# Altium footprint library Parking Sensor in FG Case6.1.PcbLib: 34 footprints (part 1 of 3)
Each footprint in its own frame and in the unit in brackets; x right, y up, seen from the top. Pads: shape width x height; smd on the part's side, far side on the other; paste and mask are expansions set on the pad; w line width, h text height; cw(c..) or ccw(c..) is an arc to the next point about the centre after c.
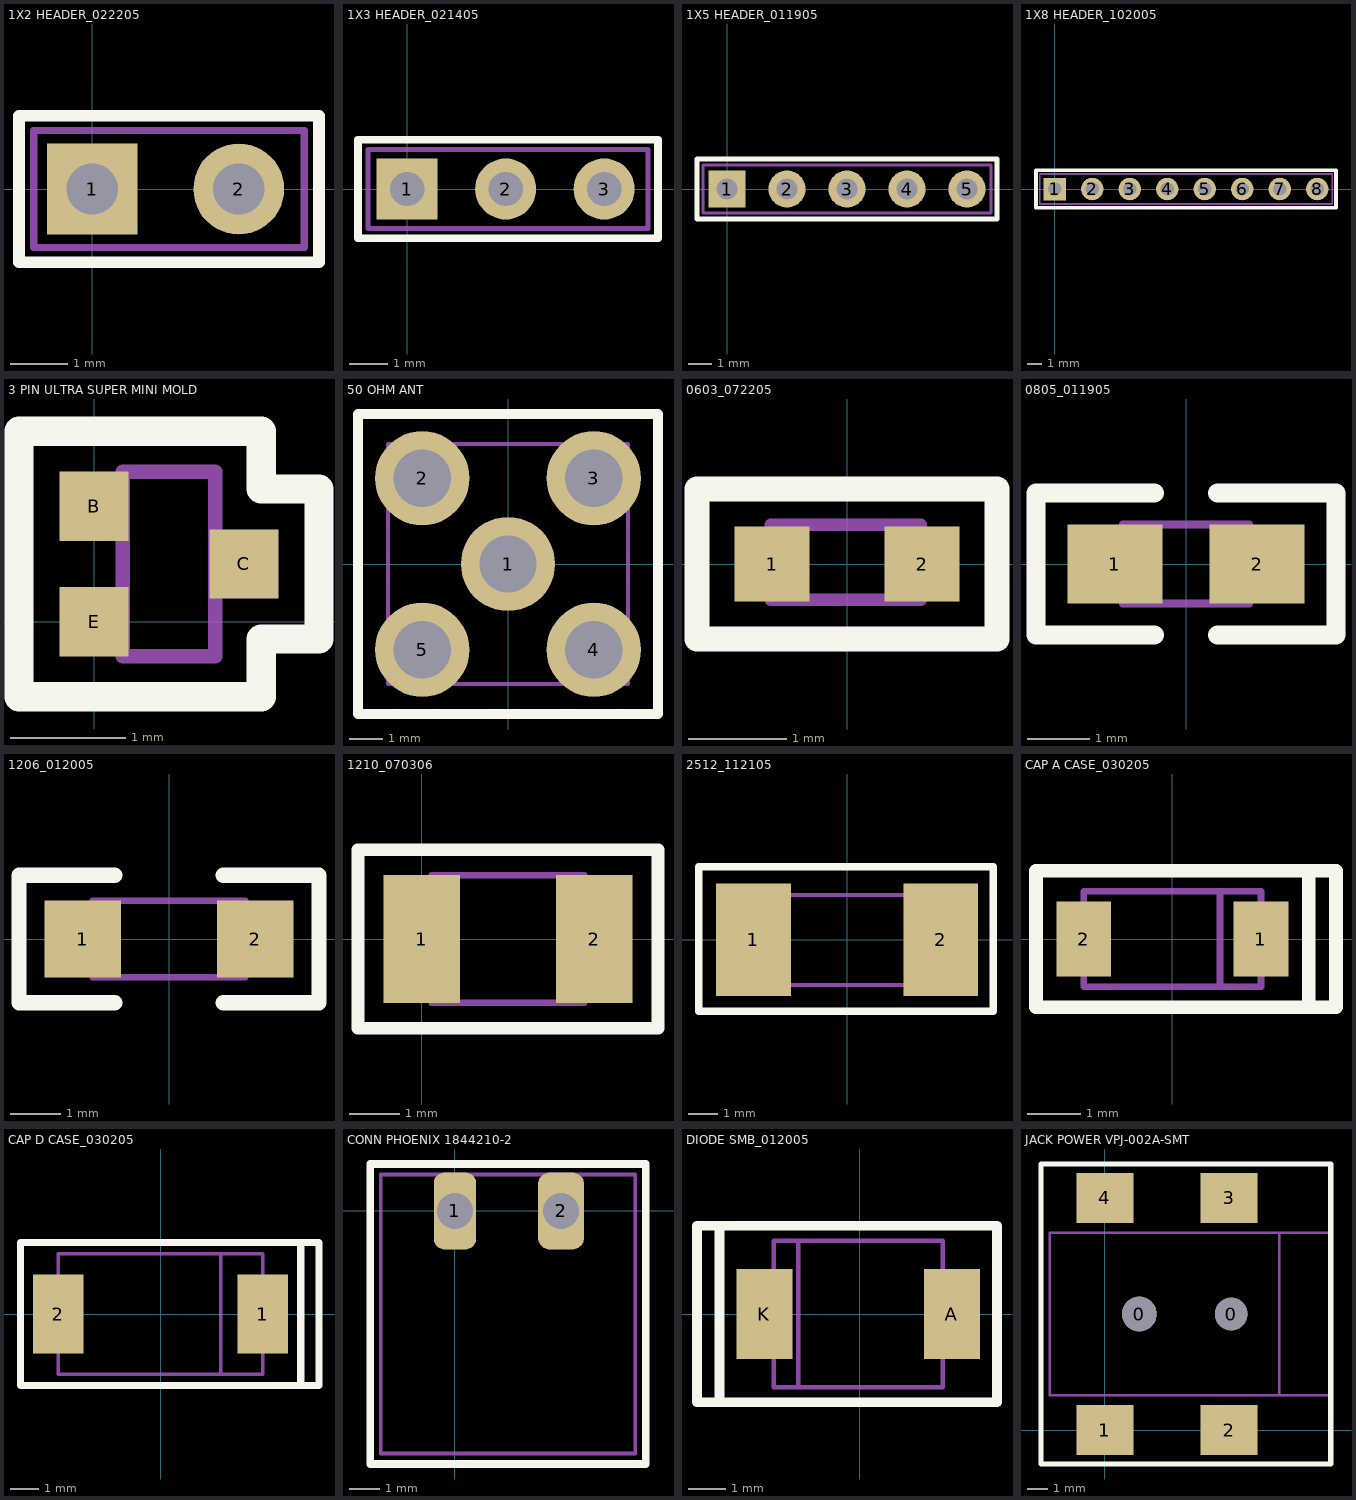
[diagram p0: the footprints below, top view; thin cyan lines are the x and y axes]

## 1X2 HEADER_022205 [mil] "TH"
height 315
pads (2):
  rect 62x62 hole 35: 1(0,0)
  round 62 hole 35: 2(100,0)
Top Overlay:
  lines w8: -50,-50 154.72,-50 154.72,50 -50,50 -50,-50
Mechanical 1:
  lines w4.92: -40,-40 144.72,-40 144.72,40 -40,40 -40,-40 ; -15,-15 -15,15 15,15 15,-15 -15,-15 ; 85,-15 85,15 115,15 115,-15 85,-15
Mechanical 8:
  text ".Designator" at 40,60 h39.37

## 1X3 HEADER_021405 [mil] "TH"
height 375
pads (3):
  rect 62x62 hole 35: 1(0,0)
  round 62 hole 35: 2(100,0) 3(200,0)
Top Overlay:
  lines w8: -50,-50 254.72,-50 254.72,50 -50,50 -50,-50
Mechanical 1:
  lines w4.92: -40,-40 244.72,-40 244.72,40 -40,40 -40,-40 ; -10,-10 10,-10 10,10 -10,10 -10,-10 ; 90,-10 90,10 110,10 110,-10 90,-10 ; 190,-10 190,10 210,10 210,-10 190,-10
Mechanical 8:
  text ".Designator" at 145,-65 h39.37

## 1X5 HEADER_011905 [mil] "TH"
height 315
pads (5):
  rect 62x62 hole 35: 1(0,0)
  round 62 hole 35: 2(100,0) 3(200,0) 4(300,0) 5(400,0)
Top Overlay:
  lines w8: -50,-50 -50,50 450,50 450,-50 -50,-50
Mechanical 1:
  lines w4.92: -40,-40 -40,40 440,40 440,-40 -40,-40 ; -13,-12 -13,13 12,13 12,-12 -13,-12 ; 87,-12 87,13 112,13 112,-12 87,-12 ; 187,-12 187,13 212,13 212,-12 187,-12 ; 287,-12 287,13 312,13 312,-12 287,-12 ; 387,-12 387,13 412,13 412,-12 387,-12
Mechanical 8:
  text ".Designator" at 175,55 h39.37

## 1X8 HEADER_102005 [mil] "TH"
height 350
pads (8):
  rect 60x60 hole 35: 1(0,0)
  round 60 hole 35: 2(100,0) 3(200,0) 4(300,0) 5(400,0) 6(500,0) 7(600,0) 8(700,0)
Top Overlay:
  lines w10: -50,-50 -50,50 750,50 750,-50 -50,-50
Mechanical 1:
  lines w4.92: -40,-40 740,-40 740,40 -40,40 -40,0 -40,-40
Mechanical 8:
  text ".Designator" at 335,-20 h39.37

## 3 PIN ULTRA SUPER MINI MOLD [mm]
pads (3):
  rect 0.6x0.6 smd: B(0,1) C(1.3,0.5) E(0,0)
Top Overlay:
  lines w0.254: -0.65,-0.65 -0.65,1.6 -0.65,1.65 1.45,1.65 1.45,1.15 1.95,1.15 1.95,-0.15 1.45,-0.15 1.45,-0.65 -0.65,-0.65
Mechanical 1:
  lines w0.125: 0.25,-0.15 -0.15,-0.15 -0.15,0.15 0.25,0.15 ; 0.25,0.85 -0.15,0.85 -0.15,1.15 0.25,1.15 ; 1.05,0.35 1.45,0.35 1.45,0.65 1.05,0.65 ; 0.25,-0.3 1.05,-0.3 1.05,1.3 0.25,1.3 0.25,-0.3
Mechanical 8:
  text ".Designator" at 2.914,-0.309 h1

## 50 OHM ANT [mil]
pads (5):
  round 110 hole 67: 1(0,0) 2(-100,100) 3(100,100) 4(100,-100) 5(-100,-100)
Top Overlay:
  lines w12: -175,-175 175,-175 175,0 175,175 -175,175 -175,-175
Mechanical 1:
  lines w4.92: -140,-140 140,-140 140,0 140,140 -140,140 -140,-140
Mechanical 8:
  text ".Designator" at -15,-24.5 h39.37

## 0603_072205 [mil] "SM"
height 20
pads (2):
  rect 30x30 smd: 1(-30,0) 2(30,0)
Top Overlay:
  lines w10: -60,-30 -60,0 -60,30 60,30 60,-30 -60,-30
Mechanical 1:
  lines w4.92: -30.53,-14.25 29.47,-14.25 29.47,15.75 -30.53,15.75 -30.53,-14.25
Mechanical 8:
  text ".Designator" at 145,20 h39.37

## 0805_011905 [mil] "SMT"
height 26
pads (2):
  rect 60x50 smd: 1(-45,0) 2(45,0)
Top Overlay:
  lines w12: -20,-45 -95,-45 -95,45 -20,45 ; 20,-45 95,-45 95,45 20,45
Mechanical 1:
  lines w4.92: -40,-25 40,-25 40,25 -40,25 -40,-25
Mechanical 8:
  text ".Designator" at 25,-35 h39.37

## 1206_012005 [mil] "SMT"
height 25
pads (2):
  rect 60x60 smd: 1(-67.5,0) 2(67.5,0)
Top Overlay:
  lines w12: -42.5,-50 -117.5,-50 -117.5,50 -42.5,50 ; 42.5,-50 117.5,-50 117.5,50 42.5,50
Mechanical 1:
  lines w4.92: -60,-30 60,-30 60,30 -60,30 -60,-30
Mechanical 8:
  text ".Designator" at 80.67,-13.98 h39.37

## 1210_070306 [mil] "SMT"
height 39.37
pads (2):
  rect 60x100 smd: 1(0,0) 2(135,0)
Top Overlay:
  lines w10: -50,-70 -50,70 110,70 185,70 185,-70 110,-70 -50,-70
Mechanical 1:
  lines w4.92: 67.5,50 7.5,50 ; 127.5,0 127.5,-50 ; 7.5,50 127.5,50 127.5,-50 ; 7.5,50 7.5,-50 127.5,-50
Mechanical 8:
  text ".Designator" at 35,-15 h39.37

## 2512_112105 [mil] "SMT"
height 50
pads (2):
  rect 100x150 smd: 1(-125,0) 2(125,0)
Top Overlay:
  lines w10: -197.5,-95 195,-95 195,97.5 -197.5,97.5 -197.5,-95
Mechanical 1:
  lines w4.92: -125,-60 -125,60 125,60 125,-60 -125,-60
Mechanical 8:
  text ".Designator" at -23,-13 h39.37

## CAP A CASE_030205 [mil] "SMT"
height 70
pads (2):
  rect 40x55 smd: 1(65,0) 2(-65,0)
Top Overlay:
  lines w10: 100,-50 120,-50 120,50 100,50 ; 100,-50 -35,-50 -100,-50 -100,50 100,50 ; 100,-50 100,50
Mechanical 1:
  lines w4.92: -65,0 -65,35 ; 0,-35 -65,-35 ; 35,-35 35,35 ; -65,-35 -65,35 ; -65,-35 65,-35 65,35 -65,35
Mechanical 8:
  text ".Designator" at -50,-80 h39.37

## CAP D CASE_030205 [mm] "SMT"
height 3.048
pads (2):
  rect 1.8x2.8 smd: 1(3.65,0) 2(-3.65,0)
Top Overlay:
  lines w0.254: 5,-2.55 5.65,-2.55 5.65,2.55 5,2.55 ; 5,-2.55 -5,-2.55 -5,0 -5,2.55 5,2.55 ; 5,-2.55 5,2.55
Mechanical 1:
  lines w0.125: 0,-2.15 -3.65,-2.15 ; 2.15,2.15 2.15,-2.15 3.65,-2.15 ; 3.65,0 3.65,2.15 ; -3.65,-2.15 -3.65,2.15 3.65,2.15 ; -3.65,-2.15 3.65,-2.15 ; 3.65,-2.15 3.65,2.15
Mechanical 8:
  text ".Designator" at -1.625,-0.398 h1

## CONN PHOENIX 1844210-2 [mm]
pads (2):
  rrect50% 1.397x2.54 hole 1.2: 1(0,0)
  rrect50% 1.524x2.54 hole 1.2: 2(3.5,0)
Top Overlay:
  lines w0.254: -2.8,-8.35 -1.4,-8.35 6.3,-8.35 6.3,0.2 6.3,1.55 4.9,1.55 -2.8,1.55 -2.8,-7 -2.8,-8.35
Mechanical 1:
  lines w0.125: -2.45,-8 -2.45,0 -2.45,1.2 5.95,1.2 5.95,0 5.95,-8 -2.45,-8
Mechanical 8:
  text ".Designator" at 1.169,-5.791 h1

## DIODE SMB_012005 [mm] "SMT"
height 2.286
pads (2):
  rect 1.5x2.4 smd: A(2.46,0) K(-2.54,0)
Top Overlay:
  lines w0.254: -3.74,-2.35 -4.34,-2.35 -4.34,2.35 -3.74,2.35 ; -3.74,-2.35 3.66,-2.35 3.66,0 3.66,2.35 -3.74,2.35 ; -3.74,-2.35 -3.74,0 -3.74,2.35
Mechanical 1:
  lines w0.125: -2.29,-1.1 -2.79,-1.1 -2.79,0 -2.79,1.1 -2.29,1.1 ; -1.64,-1.95 -1.64,1.95 -2.29,1.95 ; 2.21,-1.1 2.71,-1.1 2.71,0 2.71,1.1 2.21,1.1 ; -2.29,1.95 2.21,1.95 2.21,-1.95 -2.29,-1.95 -2.29,0 -2.29,1.95
Mechanical 8:
  text ".Designator" at -0.127,1.016 h1

## JACK POWER VPJ-002A-SMT [mm]
pads (6):
  round 1.7 hole 1.7 unplated: 0(1.7,5.7)
  round 1.6 hole 1.6 unplated: 0(6.2,5.7)
  rect 2.8x2.45 smd: 1(0,0) 2(6.1,0) 3(6.1,11.4) 4(0,11.4)
Top Overlay:
  lines w0.254: -3.126,-1.666 11.098,-1.666 11.098,13.066 -3.126,13.066 -3.126,-1.666
Mechanical 1:
  lines w0.125: 8.56,1.7 8.56,9.7 ; -2.7,1.7 11.1,1.7 11.1,9.7 -2.7,9.7 -2.7,1.7
Mechanical 8:
  text ".Designator" at 0.767,5.401 h1